# Altium footprint library varistor.PCBLIB: 93 footprints (part 4 of 6)
Each footprint in its own frame and in the unit in brackets; x right, y up, seen from the top. Pads: shape width x height; smd on the part's side, far side on the other; paste and mask are expansions set on the pad; w line width, h text height; cw(c..) or ccw(c..) is an arc to the next point about the centre after c.
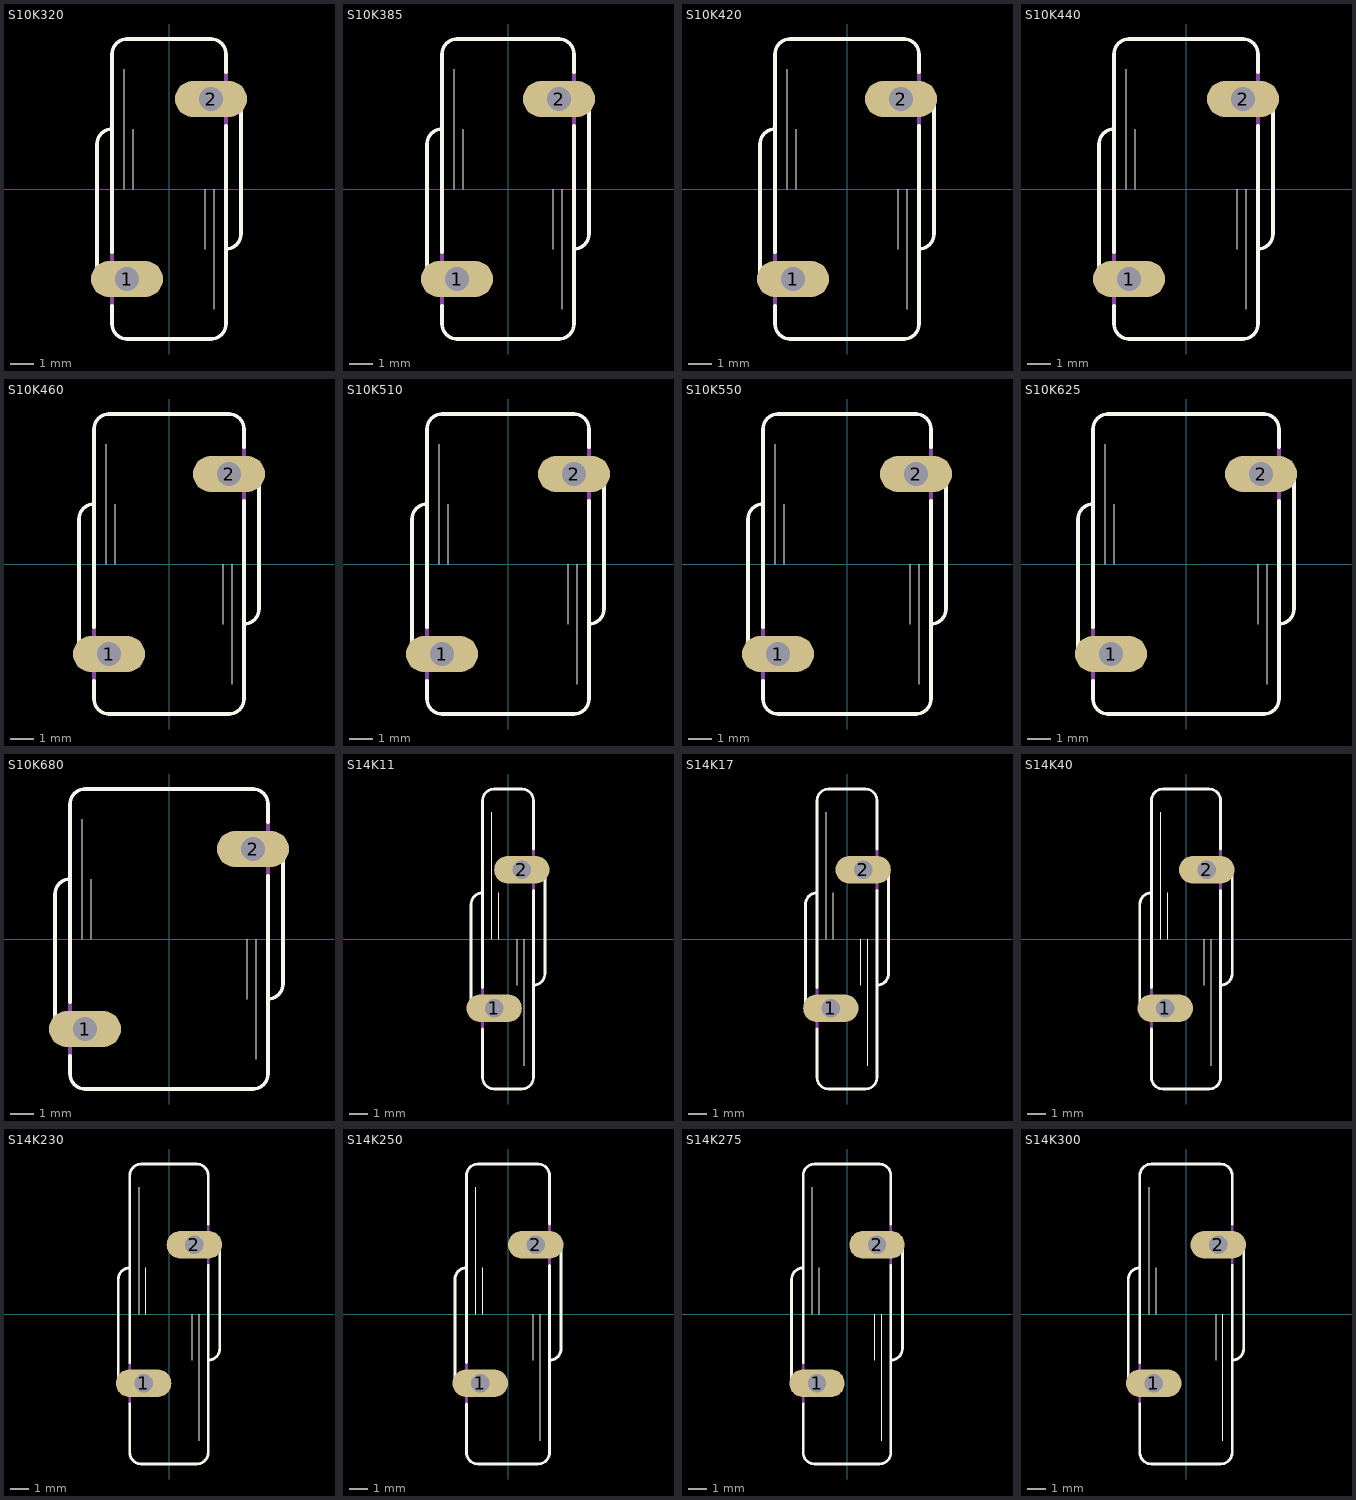
[diagram p3: the footprints below, top view; thin cyan lines are the x and y axes]

## S10K320 [mil]
pads (2):
  oval 120x60 hole 40: 1(-70,-150) 2(70,150)
Top Overlay:
  lines w2: -75,0 -75,200 ; -60,0 -60,100 ; 60,-100 60,0 ; 75,-200 75,0
  lines w6: -120,-145 -120,75 cw(c-95,75) -95,100 ; -95,-195 -95,-225 ccw(c-70,-225) -70,-250 70,-250 ccw(c70,-225) 95,-225 95,105 ; -95,-105 -95,225 cw(c-70,225) -70,250 70,250 cw(c70,225) 95,225 95,195 ; 95,-100 ccw(c95,-75) 120,-75 120,145
Mechanical 4:
  lines w6: -120,-145 ccw(c-95,-145) -95,-170 ; -95,-195 -95,-105 ; 95,105 95,195 ; 95,170 cw(c95,145) 120,145

## S10K385 [mil]
pads (2):
  oval 120x60 hole 40: 1(-85,-150) 2(85,150)
Top Overlay:
  lines w2: -90,0 -90,200 ; -75,0 -75,100 ; 75,-100 75,0 ; 90,-200 90,0
  lines w6: -135,-145 -135,75 cw(c-110,75) -110,100 ; -110,-195 -110,-225 ccw(c-85,-225) -85,-250 85,-250 ccw(c85,-225) 110,-225 110,105 ; -110,-105 -110,225 cw(c-85,225) -85,250 85,250 cw(c85,225) 110,225 110,195 ; 110,-100 ccw(c110,-75) 135,-75 135,145
Mechanical 4:
  lines w6: -135,-145 ccw(c-110,-145) -110,-170 ; -110,-195 -110,-105 ; 110,105 110,195 ; 110,170 cw(c110,145) 135,145

## S10K420 [mil]
pads (2):
  oval 120x60 hole 40: 1(-90,-150) 2(90,150)
Top Overlay:
  lines w2: -100,0 -100,200 ; -85,0 -85,100 ; 85,-100 85,0 ; 100,-200 100,0
  lines w6: -145,-145 -145,75 cw(c-120,75) -120,100 ; -120,-195 -120,-225 ccw(c-95,-225) -95,-250 95,-250 ccw(c95,-225) 120,-225 120,105 ; -120,-105 -120,225 cw(c-95,225) -95,250 95,250 cw(c95,225) 120,225 120,195 ; 120,-100 ccw(c120,-75) 145,-75 145,145
Mechanical 4:
  lines w6: -145,-145 ccw(c-120,-145) -120,-170 ; -120,-195 -120,-105 ; 120,105 120,195 ; 120,170 cw(c120,145) 145,145

## S10K440 [mil]
pads (2):
  oval 120x60 hole 40: 1(-95,-150) 2(95,150)
Top Overlay:
  lines w2: -100,0 -100,200 ; -85,0 -85,100 ; 85,-100 85,0 ; 100,-200 100,0
  lines w6: -145,-145 -145,75 cw(c-120,75) -120,100 ; -120,-195 -120,-225 ccw(c-95,-225) -95,-250 95,-250 ccw(c95,-225) 120,-225 120,105 ; -120,-105 -120,225 cw(c-95,225) -95,250 95,250 cw(c95,225) 120,225 120,195 ; 120,-100 ccw(c120,-75) 145,-75 145,145
Mechanical 4:
  lines w6: -145,-145 ccw(c-120,-145) -120,-170 ; -120,-195 -120,-105 ; 120,105 120,195 ; 120,170 cw(c120,145) 145,145

## S10K460 [mil]
pads (2):
  oval 120x60 hole 40: 1(-100,-150) 2(100,150)
Top Overlay:
  lines w2: -105,0 -105,200 ; -90,0 -90,100 ; 90,-100 90,0 ; 105,-200 105,0
  lines w6: -150,-145 -150,75 cw(c-125,75) -125,100 ; -125,-195 -125,-225 ccw(c-100,-225) -100,-250 100,-250 ccw(c100,-225) 125,-225 125,105 ; -125,-105 -125,225 cw(c-100,225) -100,250 100,250 cw(c100,225) 125,225 125,195 ; 125,-100 ccw(c125,-75) 150,-75 150,145
Mechanical 4:
  lines w6: -150,-145 ccw(c-125,-145) -125,-170 ; -125,-195 -125,-105 ; 125,105 125,195 ; 125,170 cw(c125,145) 150,145

## S10K510 [mil]
pads (2):
  oval 120x60 hole 40: 1(-110,-150) 2(110,150)
Top Overlay:
  lines w2: -115,0 -115,200 ; -100,0 -100,100 ; 100,-100 100,0 ; 115,-200 115,0
  lines w6: -160,-145 -160,75 cw(c-135,75) -135,100 ; -135,-195 -135,-225 ccw(c-110,-225) -110,-250 110,-250 ccw(c110,-225) 135,-225 135,105 ; -135,-105 -135,225 cw(c-110,225) -110,250 110,250 cw(c110,225) 135,225 135,195 ; 135,-100 ccw(c135,-75) 160,-75 160,145
Mechanical 4:
  lines w6: -160,-145 ccw(c-135,-145) -135,-170 ; -135,-195 -135,-105 ; 135,105 135,195 ; 135,170 cw(c135,145) 160,145

## S10K550 [mil]
pads (2):
  oval 120x60 hole 40: 1(-115,-150) 2(115,150)
Top Overlay:
  lines w2: -120,0 -120,200 ; -105,0 -105,100 ; 105,-100 105,0 ; 120,-200 120,0
  lines w6: -165,-145 -165,75 cw(c-140,75) -140,100 ; -140,-195 -140,-225 ccw(c-115,-225) -115,-250 115,-250 ccw(c115,-225) 140,-225 140,105 ; -140,-105 -140,225 cw(c-115,225) -115,250 115,250 cw(c115,225) 140,225 140,195 ; 140,-100 ccw(c140,-75) 165,-75 165,145
Mechanical 4:
  lines w6: -165,-145 ccw(c-140,-145) -140,-170 ; -140,-195 -140,-105 ; 140,105 140,195 ; 140,170 cw(c140,145) 165,145

## S10K625 [mil]
pads (2):
  oval 120x60 hole 40: 1(-125,-150) 2(125,150)
Top Overlay:
  lines w2: -135,0 -135,200 ; -120,0 -120,100 ; 120,-100 120,0 ; 135,-200 135,0
  lines w6: -180,-145 -180,75 cw(c-155,75) -155,100 ; -155,-195 -155,-225 ccw(c-130,-225) -130,-250 130,-250 ccw(c130,-225) 155,-225 155,105 ; -155,-105 -155,225 cw(c-130,225) -130,250 130,250 cw(c130,225) 155,225 155,195 ; 155,-100 ccw(c155,-75) 180,-75 180,145
Mechanical 4:
  lines w6: -180,-145 ccw(c-155,-145) -155,-170 ; -155,-195 -155,-105 ; 155,105 155,195 ; 155,170 cw(c155,145) 180,145

## S10K680 [mil]
pads (2):
  oval 120x60 hole 40: 1(-140,-150) 2(140,150)
Top Overlay:
  lines w2: -145,0 -145,200 ; -130,0 -130,100 ; 130,-100 130,0 ; 145,-200 145,0
  lines w6: -190,-145 -190,75 cw(c-165,75) -165,100 ; -165,-195 -165,-225 ccw(c-140,-225) -140,-250 140,-250 ccw(c140,-225) 165,-225 165,105 ; -165,-105 -165,225 cw(c-140,225) -140,250 140,250 cw(c140,225) 165,225 165,195 ; 165,-100 ccw(c165,-75) 190,-75 190,145
Mechanical 4:
  lines w6: -190,-145 ccw(c-165,-145) -165,-170 ; -165,-195 -165,-105 ; 165,105 165,195 ; 165,170 cw(c165,145) 190,145

## S14K11 [mil]
pads (2):
  oval 120x60 hole 40: 1(-30,-150) 2(30,150)
Top Overlay:
  lines w2: -35,0 -35,275 ; -20,0 -20,100 ; 20,-100 20,0 ; 35,-275 35,0
  lines w6: -80,-145 -80,75 cw(c-55,75) -55,100 ; -55,-195 -55,-300 ccw(c-30,-300) -30,-325 30,-325 ccw(c30,-300) 55,-300 55,105 ; -55,-105 -55,300 cw(c-30,300) -30,325 30,325 cw(c30,300) 55,300 55,195 ; 55,-100 ccw(c55,-75) 80,-75 80,145
Mechanical 4:
  lines w6: -80,-145 ccw(c-55,-145) -55,-170 ; -55,-195 -55,-105 ; 55,105 55,195 ; 55,170 cw(c55,145) 80,145

## S14K17 [mil]
pads (2):
  oval 120x60 hole 40: 1(-35,-150) 2(35,150)
Top Overlay:
  lines w2: -45,0 -45,275 ; -30,0 -30,100 ; 30,-100 30,0 ; 45,-275 45,0
  lines w6: -90,-145 -90,75 cw(c-65,75) -65,100 ; -65,-195 -65,-300 ccw(c-40,-300) -40,-325 40,-325 ccw(c40,-300) 65,-300 65,105 ; -65,-105 -65,300 cw(c-40,300) -40,325 40,325 cw(c40,300) 65,300 65,195 ; 65,-100 ccw(c65,-75) 90,-75 90,145
Mechanical 4:
  lines w6: -90,-145 ccw(c-65,-145) -65,-170 ; -65,-195 -65,-105 ; 65,105 65,195 ; 65,170 cw(c65,145) 90,145

## S14K40 [mil]
pads (2):
  oval 120x60 hole 40: 1(-45,-150) 2(45,150)
Top Overlay:
  lines w2: -55,0 -55,275 ; -40,0 -40,100 ; 40,-100 40,0 ; 55,-275 55,0
  lines w6: -100,-145 -100,75 cw(c-75,75) -75,100 ; -75,-195 -75,-300 ccw(c-50,-300) -50,-325 50,-325 ccw(c50,-300) 75,-300 75,105 ; -75,-105 -75,300 cw(c-50,300) -50,325 50,325 cw(c50,300) 75,300 75,195 ; 75,-100 ccw(c75,-75) 100,-75 100,145
Mechanical 4:
  lines w6: -100,-145 ccw(c-75,-145) -75,-170 ; -75,-195 -75,-105 ; 75,105 75,195 ; 75,170 cw(c75,145) 100,145

## S14K230 [mil]
pads (2):
  oval 120x60 hole 40: 1(-55,-150) 2(55,150)
Top Overlay:
  lines w2: -65,0 -65,275 ; -50,0 -50,100 ; 50,-100 50,0 ; 65,-275 65,0
  lines w6: -110,-145 -110,75 cw(c-85,75) -85,100 ; -85,-195 -85,-300 ccw(c-60,-300) -60,-325 60,-325 ccw(c60,-300) 85,-300 85,105 ; -85,-105 -85,300 cw(c-60,300) -60,325 60,325 cw(c60,300) 85,300 85,195 ; 85,-100 ccw(c85,-75) 110,-75 110,145
Mechanical 4:
  lines w6: -110,-145 ccw(c-85,-145) -85,-170 ; -85,-195 -85,-105 ; 85,105 85,195 ; 85,170 cw(c85,145) 110,145

## S14K250 [mil]
pads (2):
  oval 120x60 hole 40: 1(-60,-150) 2(60,150)
Top Overlay:
  lines w2: -70,0 -70,275 ; -55,0 -55,100 ; 55,-100 55,0 ; 70,-275 70,0
  lines w6: -115,-145 -115,75 cw(c-90,75) -90,100 ; -90,-195 -90,-300 ccw(c-65,-300) -65,-325 65,-325 ccw(c65,-300) 90,-300 90,105 ; -90,-105 -90,300 cw(c-65,300) -65,325 65,325 cw(c65,300) 90,300 90,195 ; 90,-100 ccw(c90,-75) 115,-75 115,145
Mechanical 4:
  lines w6: -115,-145 ccw(c-90,-145) -90,-170 ; -90,-195 -90,-105 ; 90,105 90,195 ; 90,170 cw(c90,145) 115,145

## S14K275 [mil]
pads (2):
  oval 120x60 hole 40: 1(-65,-150) 2(65,150)
Top Overlay:
  lines w2: -75,0 -75,275 ; -60,0 -60,100 ; 60,-100 60,0 ; 75,-275 75,0
  lines w6: -120,-145 -120,75 cw(c-95,75) -95,100 ; -95,-195 -95,-300 ccw(c-70,-300) -70,-325 70,-325 ccw(c70,-300) 95,-300 95,105 ; -95,-105 -95,300 cw(c-70,300) -70,325 70,325 cw(c70,300) 95,300 95,195 ; 95,-100 ccw(c95,-75) 120,-75 120,145
Mechanical 4:
  lines w6: -120,-145 ccw(c-95,-145) -95,-170 ; -95,-195 -95,-105 ; 95,105 95,195 ; 95,170 cw(c95,145) 120,145

## S14K300 [mil]
pads (2):
  oval 120x60 hole 40: 1(-70,-150) 2(70,150)
Top Overlay:
  lines w2: -80,0 -80,275 ; -65,0 -65,100 ; 65,-100 65,0 ; 80,-275 80,0
  lines w6: -125,-145 -125,75 cw(c-100,75) -100,100 ; -100,-195 -100,-300 ccw(c-75,-300) -75,-325 75,-325 ccw(c75,-300) 100,-300 100,105 ; -100,-105 -100,300 cw(c-75,300) -75,325 75,325 cw(c75,300) 100,300 100,195 ; 100,-100 ccw(c100,-75) 125,-75 125,145
Mechanical 4:
  lines w6: -125,-145 ccw(c-100,-145) -100,-170 ; -100,-195 -100,-105 ; 100,105 100,195 ; 100,170 cw(c100,145) 125,145